# Altium integrated library Motorola RF and IF Modulator Demodulator.IntLib: 16 symbols
Pins are listed as number, name and electrical type; pins without a type are passive.

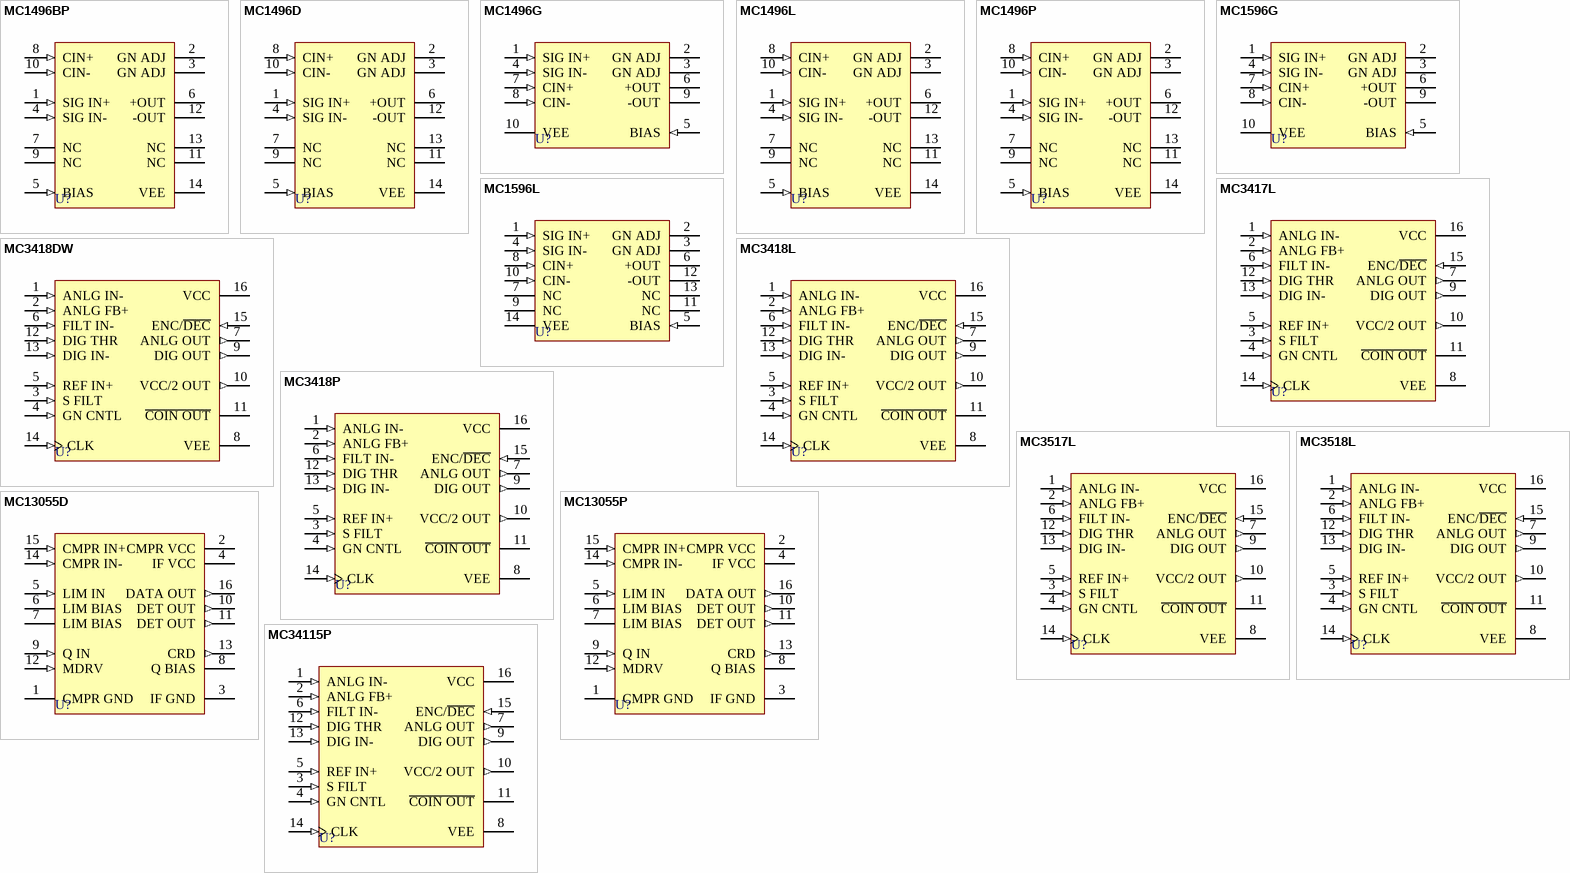
[diagram p0: symbols MC1496BP to MC34115P]

## MC1496BP
designator U?
Balanced Modulator/Demodulator; Published: 17-Jul-2002; LatestRevisionDate: 06-Jun-2005; LatestRevisionNote: Stylized 3D Model Added.; DatasheetVersion: 1996; PackageVersion: 1997; PackageReference: 646-06; Publisher: Altium Limited; PackageDescription: DIP; 14 Leads; Row Spacing 7.62 mm; Pitch 2.54 mm; ComponentLink1Description: Manufacturer Link; ComponentLink1URL: http://www.onsemi.com/site/products/parts/0,4454,73,00.html; ComponentLink2Description: Datasheet; ComponentLink2URL: http://www.onsemi.com/pub/Collateral/MC1496-D.PDF
footprint 646-06 (DIP; 14 Leads; Row Spacing 7.62 mm; Pitch 2.54 mm)
3D model 646-06 (DIP; 14 Leads; Row Spacing 7.62 mm; Pitch 2.54 mm)
pins: 1 SIG IN+ (in), 2 GN ADJ, 3 GN ADJ, 4 SIG IN- (in), 5 BIAS (in), 6 +OUT (oc), 7 NC, 8 CIN+ (in), 9 NC, 10 CIN- (in), 11 NC, 12 -OUT (oc), 13 NC, 14 VEE (power)

## MC1496D
designator U?
Balanced Modulator/Demodulator; Published: 17-Jul-2002; LatestRevisionDate: 13-Apr-2006; LatestRevisionNote: IPC-7351 Footprint Added.; DatasheetVersion: 1988; PackageVersion: 1991; PackageReference: 751A-02; Publisher: Altium Limited; PackageDescription: 14-Pin Small Outline Integrated Circuit 1.27 mm Pitch; Code_IPC: SOIC127P600-14; ComponentLink1Description: Manufacturer Link; ComponentLink1URL: http://www.onsemi.com/site/products/taxonomy/0,4438,303,00.html; ComponentLink2Description: Datasheet; ComponentLink2URL: http://www.onsemi.com/pub/Collateral/MC1496-D.PDF
footprint 751A-02_N (SOIC, 14-Leads, Body 8.7x3.9mm, Pitch 1.27mm, IPC Medium Density)
footprint 751A-02_L (SOIC, 14-Leads, Body 8.7x3.9mm, Pitch 1.27mm, IPC High Density)
footprint 751A-02_M (SOIC, 14-Leads, Body 8.7x3.9mm, Pitch 1.27mm, IPC Low Density)
3D model 751A-02 (14-Pin Small Outline Integrated Circuit 1.27 mm Pitch)
pins: 1 SIG IN+ (in), 2 GN ADJ, 3 GN ADJ, 4 SIG IN- (in), 5 BIAS (in), 6 +OUT (oc), 7 NC, 8 CIN+ (in), 9 NC, 10 CIN- (in), 11 NC, 12 -OUT (oc), 13 NC, 14 VEE (power)

## MC1496G
designator U?
Balanced Modulator/Demodulator; Published: 17-Jul-2002; DatasheetVersion: 1988; PackageReference: 603-04; Publisher: Altium Limited; PackageDescription: Can; 10 Leads; Pin Circle Dia. 5.84 mm; Lead Dia. 0.53 mm (max); ComponentLink1Description: Manufacturer Link; ComponentLink1URL: http://www.onsemi.com/site/products/taxonomy/0,4438,303,00.html; ComponentLink2Description: Datasheet; ComponentLink2URL: http://www.onsemi.com/pub/Collateral/MC1496-D.PDF
footprint 603-04 (Can; 10 Leads; Pin Circle Dia. 5.84 mm; Lead Dia. 0.53 mm (max))
pins: 1 SIG IN+ (in), 2 GN ADJ, 3 GN ADJ, 4 SIG IN- (in), 5 BIAS (in), 6 +OUT (oc), 7 CIN+ (in), 8 CIN- (in), 9 -OUT (oc), 10 VEE (power)

## MC1496L
designator U?
Balanced Modulator/Demodulator; Published: 17-Jul-2002; LatestRevisionDate: 06-Jun-2005; LatestRevisionNote: Stylized 3D Model Added.; DatasheetVersion: 1988; PackageReference: 632-08; Publisher: Altium Limited; PackageDescription: DIP; 14 Leads; Row Spacing 7.62 mm; Pitch 2.54 mm; ComponentLink1Description: Manufacturer Link; ComponentLink1URL: http://www.onsemi.com/site/products/taxonomy/0,4438,303,00.html; ComponentLink2Description: Datasheet; ComponentLink2URL: http://www.onsemi.com/pub/Collateral/MC1496-D.PDF
footprint 632-08 (DIP; 14 Leads; Row Spacing 7.62 mm; Pitch 2.54 mm)
3D model 632-08 (DIP; 14 Leads; Row Spacing 7.62 mm; Pitch 2.54 mm)
pins: 1 SIG IN+ (in), 2 GN ADJ, 3 GN ADJ, 4 SIG IN- (in), 5 BIAS (in), 6 +OUT (oc), 7 NC, 8 CIN+ (in), 9 NC, 10 CIN- (in), 11 NC, 12 -OUT (oc), 13 NC, 14 VEE (power)

## MC1496P
designator U?
Balanced Modulator/Demodulator; Published: 17-Jul-2002; LatestRevisionDate: 06-Jun-2005; LatestRevisionNote: Stylized 3D Model Added.; DatasheetVersion: 1988; PackageVersion: 1997; PackageReference: 646-06; Publisher: Altium Limited; PackageDescription: DIP; 14 Leads; Row Spacing 7.62 mm; Pitch 2.54 mm; ComponentLink1Description: Manufacturer Link; ComponentLink1URL: http://www.onsemi.com/site/products/taxonomy/0,4438,303,00.html; ComponentLink2Description: Datasheet; ComponentLink2URL: http://www.onsemi.com/pub/Collateral/MC1496-D.PDF
footprint 646-06 (DIP; 14 Leads; Row Spacing 7.62 mm; Pitch 2.54 mm)
3D model 646-06 (DIP; 14 Leads; Row Spacing 7.62 mm; Pitch 2.54 mm)
pins: 1 SIG IN+ (in), 2 GN ADJ, 3 GN ADJ, 4 SIG IN- (in), 5 BIAS (in), 6 +OUT (oc), 7 NC, 8 CIN+ (in), 9 NC, 10 CIN- (in), 11 NC, 12 -OUT (oc), 13 NC, 14 VEE (power)

## MC1596G
designator U?
Balanced Modulator/Demodulator; Published: 17-Jul-2002; DatasheetVersion: 1988; PackageReference: 603-04; Publisher: Altium Limited; PackageDescription: Can; 10 Leads; Pin Circle Dia. 5.84 mm; Lead Dia. 0.53 mm (max); ComponentLink1Description: Manufacturer Link; ComponentLink1URL: http://www.onsemi.com/site/products/taxonomy/0,4438,303,00.html; ComponentLink2Description: Datasheet; ComponentLink2URL: http://www.onsemi.com/pub/Collateral/MC1496-D.PDF
footprint 603-04 (Can; 10 Leads; Pin Circle Dia. 5.84 mm; Lead Dia. 0.53 mm (max))
pins: 1 SIG IN+ (in), 2 GN ADJ, 3 GN ADJ, 4 SIG IN- (in), 5 BIAS (in), 6 +OUT (oc), 7 CIN+ (in), 8 CIN- (in), 9 -OUT (oc), 10 VEE (power)

## MC1596L
designator U?
Balanced Modulator/Demodulator; Published: 17-Jul-2002; LatestRevisionDate: 06-Jun-2005; LatestRevisionNote: Stylized 3D Model Added.; DatasheetVersion: 1988; PackageReference: 632-08; Publisher: Altium Limited; PackageDescription: DIP; 14 Leads; Row Spacing 7.62 mm; Pitch 2.54 mm; ComponentLink1Description: Manufacturer Link; ComponentLink1URL: http://www.onsemi.com/site/products/taxonomy/0,4438,303,00.html; ComponentLink2Description: Datasheet; ComponentLink2URL: http://www.onsemi.com/pub/Collateral/MC1496-D.PDF
footprint 632-08 (DIP; 14 Leads; Row Spacing 7.62 mm; Pitch 2.54 mm)
3D model 632-08 (DIP; 14 Leads; Row Spacing 7.62 mm; Pitch 2.54 mm)
pins: 1 SIG IN+ (in), 2 GN ADJ, 3 GN ADJ, 4 SIG IN- (in), 5 BIAS (in), 6 +OUT (oc), 7 NC, 8 CIN+ (in), 9 NC, 10 CIN- (in), 11 NC, 12 -OUT (oc), 13 NC, 14 VEE (power)

## MC3417L
designator U?
Continuously Variable Slope Delta Modulator/Demodulator; Published: 17-Jul-2002; LatestRevisionDate: 06-Jun-2005; LatestRevisionNote: Stylized 3D Model Added.; DatasheetVersion: 1989; PackageReference: 620-10; Publisher: Altium Limited; PackageDescription: DIP; 16 Leads; Row Spacing 7.62 mm; Pitch 2.54 mm
footprint 620-10 (DIP; 16 Leads; Row Spacing 7.62 mm; Pitch 2.54 mm)
3D model 620-10 (DIP; 16 Leads; Row Spacing 7.62 mm; Pitch 2.54 mm)
pins: 1 ANLG IN- (in), 2 ANLG FB+ (in), 3 S FILT (in), 4 GN CNTL (in), 5 REF IN+ (in), 6 FILT IN- (in), 7 ANLG OUT (out), 8 VEE (power), 9 DIG OUT (out), 10 VCC/2 OUT (out), 11 ~{COIN OUT} (oc), 12 DIG THR (in), 13 DIG IN- (in), 14 CLK (in), 15 ENC/~{DEC} (in), 16 VCC (power)

## MC3418DW
designator U?
Continuously Variable Slope Delta Modulator/Demodulator; Published: 17-Jul-2002; LatestRevisionDate: 13-Apr-2006; LatestRevisionNote: IPC-7351 Footprint Added.; DatasheetVersion: 1989; PackageReference: 751G-01; Publisher: Altium Limited; PackageDescription: 16-Pin Small Outline Integrated Circuit 1.27 mm Pitch
footprint 751G-01_N (SOIC, 16-Leads, Body 10.3x7.5mm, Pitch 1.27mm, IPC Medium Density)
footprint 751G-01_L (SOIC, 16-Leads, Body 10.3x7.5mm, Pitch 1.27mm, IPC High Density)
footprint 751G-01_M (SOIC, 16-Leads, Body 10.3x7.5mm, Pitch 1.27mm, IPC Low Density)
3D model 751G-01 (16-Pin Small Outline Integrated Circuit 1.27 mm Pitch)
pins: 1 ANLG IN- (in), 2 ANLG FB+ (in), 3 S FILT (in), 4 GN CNTL (in), 5 REF IN+ (in), 6 FILT IN- (in), 7 ANLG OUT (out), 8 VEE (power), 9 DIG OUT (out), 10 VCC/2 OUT (out), 11 ~{COIN OUT} (oc), 12 DIG THR (in), 13 DIG IN- (in), 14 CLK (in), 15 ENC/~{DEC} (in), 16 VCC (power)

## MC3418L
designator U?
Continuously Variable Slope Delta Modulator/Demodulator; Published: 17-Jul-2002; LatestRevisionDate: 06-Jun-2005; LatestRevisionNote: Stylized 3D Model Added.; DatasheetVersion: 1989; PackageReference: 620-10; Publisher: Altium Limited; PackageDescription: DIP; 16 Leads; Row Spacing 7.62 mm; Pitch 2.54 mm
footprint 620-10 (DIP; 16 Leads; Row Spacing 7.62 mm; Pitch 2.54 mm)
3D model 620-10 (DIP; 16 Leads; Row Spacing 7.62 mm; Pitch 2.54 mm)
pins: 1 ANLG IN- (in), 2 ANLG FB+ (in), 3 S FILT (in), 4 GN CNTL (in), 5 REF IN+ (in), 6 FILT IN- (in), 7 ANLG OUT (out), 8 VEE (power), 9 DIG OUT (out), 10 VCC/2 OUT (out), 11 ~{COIN OUT} (oc), 12 DIG THR (in), 13 DIG IN- (in), 14 CLK (in), 15 ENC/~{DEC} (in), 16 VCC (power)

## MC3418P
designator U?
Continuously Variable Slope Delta Modulator/Demodulator; Published: 17-Jul-2002; LatestRevisionDate: 06-Jun-2005; LatestRevisionNote: Stylized 3D Model Added.; DatasheetVersion: 1989; PackageReference: 648-08; Publisher: Altium Limited; PackageDescription: DIP; 16 Leads; Row Spacing 7.62 mm; Pitch 2.54 mm; Code_JEDEC: MS-001-BB
footprint 648-08 (DIP; 16 Leads; Row Spacing 7.62 mm; Pitch 2.54 mm)
3D model 648-08 (DIP; 16 Leads; Row Spacing 7.62 mm; Pitch 2.54 mm)
pins: 1 ANLG IN- (in), 2 ANLG FB+ (in), 3 S FILT (in), 4 GN CNTL (in), 5 REF IN+ (in), 6 FILT IN- (in), 7 ANLG OUT (out), 8 VEE (power), 9 DIG OUT (out), 10 VCC/2 OUT (out), 11 ~{COIN OUT} (oc), 12 DIG THR (in), 13 DIG IN- (in), 14 CLK (in), 15 ENC/~{DEC} (in), 16 VCC (power)

## MC3517L
designator U?
Continuously Variable Slope Delta Modulator/Demodulator; Published: 17-Jul-2002; LatestRevisionDate: 06-Jun-2005; LatestRevisionNote: Stylized 3D Model Added.; DatasheetVersion: 1989; PackageReference: 620-10; Publisher: Altium Limited; PackageDescription: DIP; 16 Leads; Row Spacing 7.62 mm; Pitch 2.54 mm
footprint 620-10 (DIP; 16 Leads; Row Spacing 7.62 mm; Pitch 2.54 mm)
3D model 620-10 (DIP; 16 Leads; Row Spacing 7.62 mm; Pitch 2.54 mm)
pins: 1 ANLG IN- (in), 2 ANLG FB+ (in), 3 S FILT (in), 4 GN CNTL (in), 5 REF IN+ (in), 6 FILT IN- (in), 7 ANLG OUT (out), 8 VEE (power), 9 DIG OUT (out), 10 VCC/2 OUT (out), 11 ~{COIN OUT} (oc), 12 DIG THR (in), 13 DIG IN- (in), 14 CLK (in), 15 ENC/~{DEC} (in), 16 VCC (power)

## MC3518L
designator U?
Continuously Variable Slope Delta Modulator/Demodulator; Published: 17-Jul-2002; LatestRevisionDate: 06-Jun-2005; LatestRevisionNote: Stylized 3D Model Added.; DatasheetVersion: 1989; PackageReference: 620-10; Publisher: Altium Limited; PackageDescription: DIP; 16 Leads; Row Spacing 7.62 mm; Pitch 2.54 mm
footprint 620-10 (DIP; 16 Leads; Row Spacing 7.62 mm; Pitch 2.54 mm)
3D model 620-10 (DIP; 16 Leads; Row Spacing 7.62 mm; Pitch 2.54 mm)
pins: 1 ANLG IN- (in), 2 ANLG FB+ (in), 3 S FILT (in), 4 GN CNTL (in), 5 REF IN+ (in), 6 FILT IN- (in), 7 ANLG OUT (out), 8 VEE (power), 9 DIG OUT (out), 10 VCC/2 OUT (out), 11 ~{COIN OUT} (oc), 12 DIG THR (in), 13 DIG IN- (in), 14 CLK (in), 15 ENC/~{DEC} (in), 16 VCC (power)

## MC13055D
designator U?
Wideband FSK Receiver; Published: 17-Jul-2002; LatestRevisionDate: 13-Apr-2006; LatestRevisionNote: IPC-7351 Footprint Added.; DatasheetVersion: 1988; PackageVersion: 1991; PackageReference: 751B-03; Publisher: Altium Limited; PackageDescription: 16-Pin Small Outline Integrated Circuit 1.27 mm Pitch; Code_JEDEC: MS-012-AC; Code_IPC: SOIC127P600-16
footprint 751B-03_N (SOIC, 16-Leads, Body 9.9x3.9mm, Pitch 1.27mm, IPC Medium Density)
footprint 751B-03_L (SOIC, 16-Leads, Body 9.9x3.9mm, Pitch 1.27mm, IPC High Density)
footprint 751B-03_M (SOIC, 16-Leads, Body 9.9x3.9mm, Pitch 1.27mm, IPC Low Density)
3D model 751B-03 (16-Pin Small Outline Integrated Circuit 1.27 mm Pitch)
pins: 1 CMPR GND (power), 2 CMPR VCC (power), 3 IF GND (power), 4 IF VCC (power), 5 LIM IN (in), 6 LIM BIAS, 7 LIM BIAS, 8 Q BIAS, 9 Q IN (in), 10 DET OUT (out), 11 DET OUT (out), 12 MDRV (in), 13 CRD (out), 14 CMPR IN- (in), 15 CMPR IN+ (in), 16 DATA OUT (out)

## MC13055P
designator U?
Wideband FSK Receiver; Published: 17-Jul-2002; LatestRevisionDate: 06-Jun-2005; LatestRevisionNote: Stylized 3D Model Added.; DatasheetVersion: 1988; PackageReference: 648-06; Publisher: Altium Limited; PackageDescription: DIP; 16 Leads; Row Spacing 7.62 mm; Pitch 2.54 mm
footprint 648-06 (DIP; 16 Leads; Row Spacing 7.62 mm; Pitch 2.54 mm)
3D model 648-06 (DIP; 16 Leads; Row Spacing 7.62 mm; Pitch 2.54 mm)
pins: 1 CMPR GND (power), 2 CMPR VCC (power), 3 IF GND (power), 4 IF VCC (power), 5 LIM IN (in), 6 LIM BIAS, 7 LIM BIAS, 8 Q BIAS, 9 Q IN (in), 10 DET OUT (out), 11 DET OUT (out), 12 MDRV (in), 13 CRD (out), 14 CMPR IN- (in), 15 CMPR IN+ (in), 16 DATA OUT (out)

## MC34115P
designator U?
Continuously Variable Slope Delta Modulator/Demodulator; Published: 17-Jul-2002; LatestRevisionDate: 06-Jun-2005; LatestRevisionNote: Stylized 3D Model Added.; DatasheetVersion: 1989; PackageReference: 648-08; Publisher: Altium Limited; PackageDescription: DIP; 16 Leads; Row Spacing 7.62 mm; Pitch 2.54 mm; Code_JEDEC: MS-001-BB
footprint 648-08 (DIP; 16 Leads; Row Spacing 7.62 mm; Pitch 2.54 mm)
3D model 648-08 (DIP; 16 Leads; Row Spacing 7.62 mm; Pitch 2.54 mm)
pins: 1 ANLG IN- (in), 2 ANLG FB+ (in), 3 S FILT (in), 4 GN CNTL (in), 5 REF IN+ (in), 6 FILT IN- (in), 7 ANLG OUT (out), 8 VEE (power), 9 DIG OUT (out), 10 VCC/2 OUT (out), 11 ~{COIN OUT} (oc), 12 DIG THR (in), 13 DIG IN- (in), 14 CLK (in), 15 ENC/~{DEC} (in), 16 VCC (power)